# EAGLE library part S9B-PH-SM4-TB(LF)(SN) (library Headers)
CONN HEADER SMD R/A 9POS 2MM Manufacturer's datasheet <http://www.jst-mfg.com/product/pdf/eng/ePH.pdf>
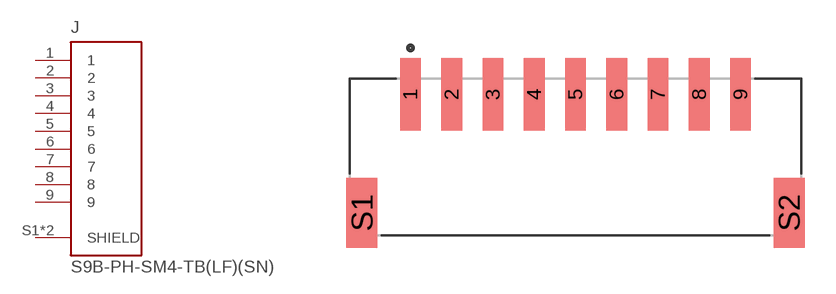
[diagram p27: symbol with the pads of S9B-PH-SM4-TB(LF)(SN); footprint S9B-PH-SM4-TB(LF)(SN)]

Designator prefix J

## S9B-PH-SM4-TB(LF)(SN) (CREATED_BY: PCBLayout.com; DIGIKEY_PN: 455-1756-2-ND; MANUFACTURER: JST Sales America Inc.; MPN: S9B-PH-SM4-TB(LF)(SN))  [S9B-PH-SM4-TB(LF)(SN)]
1  1  pas
2  2  pas
3  3  pas
4  4  pas
5  5  pas
6  6  pas
7  7  pas
8  8  pas
9  9  pas
S1  SHIELD  pwr
S2  SHIELD  pwr

## Footprint S9B-PH-SM4-TB(LF)(SN) (pad centres in mm)
smd 1 x 3.5: 1 -8,2.875; 2 -6,2.875; 3 -4,2.875; 4 -2,2.875; 5 0,2.875; 6 2,2.875; 7 4,2.875; 8 6,2.875; 9 8,2.875
smd 1.5 x 3.4: S1 -10.35,-2.875; S2 10.35,-2.875